# Altium footprint library QSH-060-01-H-D-A-K-TR.PcbLib: 1 footprints
Each footprint in its own frame and in the unit in brackets; x right, y up, seen from the top. Pads: shape width x height; smd on the part's side, far side on the other; paste and mask are expansions set on the pad; w line width, h text height; cw(c..) or ccw(c..) is an arc to the next point about the centre after c.
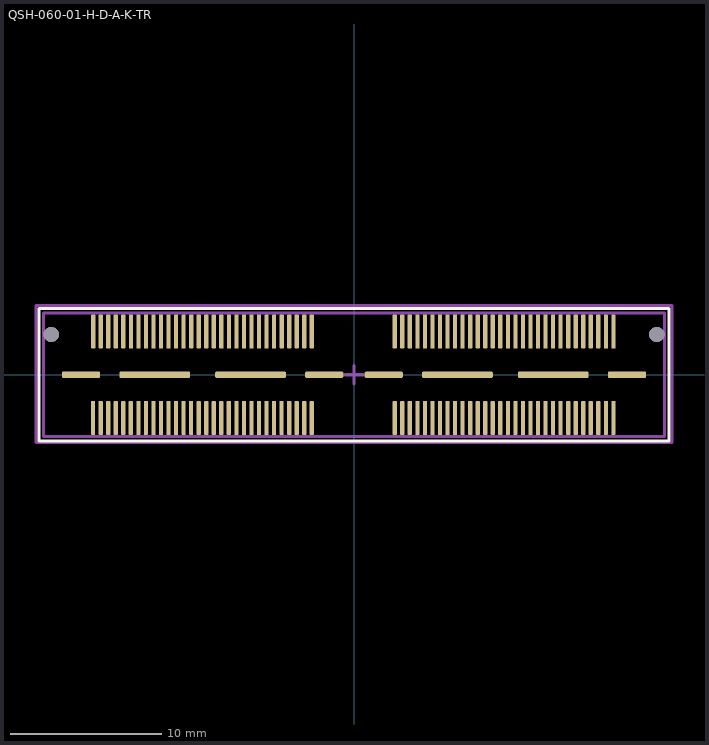
[diagram p0: the footprint, top view; thin cyan lines are the x and y axes]

## QSH-060-01-H-D-A-K-TR [mm]
pads (128):
  rrect50% 0.279x2.27 smd paste-0.02 mask+0.05: 1(-17.3,-2.865) 2(-17.297,2.865) 3(-16.8,-2.865) 4(-16.797,2.865) 5(-16.3,-2.865) 6(-16.297,2.865) 7(-15.8,-2.865) 8(-15.797,2.865) 9(-15.3,-2.865) 10(-15.297,2.865) 11(-14.8,-2.865) 12(-14.797,2.865) 13(-14.3,-2.865) 14(-14.297,2.865) 15(-13.8,-2.865) 16(-13.797,2.865) 17(-13.3,-2.865) 18(-13.297,2.865) 19(-12.8,-2.865) 20(-12.797,2.865) 21(-12.3,-2.865) 22(-12.297,2.865) 23(-11.8,-2.865) 24(-11.797,2.865) 25(-11.3,-2.865) 26(-11.297,2.865) 27(-10.8,-2.865) 28(-10.797,2.865) 29(-10.3,-2.865) 30(-10.297,2.865) 31(-9.8,-2.865) 32(-9.797,2.865) 33(-9.3,-2.865) 34(-9.297,2.865) 35(-8.8,-2.865) 36(-8.797,2.865) 37(-8.3,-2.865) 38(-8.297,2.865) 39(-7.8,-2.865) 40(-7.797,2.865) 41(-7.3,-2.865) 42(-7.297,2.865) 43(-6.8,-2.865) 44(-6.797,2.865) 45(-6.3,-2.865) 46(-6.297,2.865) 47(-5.8,-2.865) 48(-5.797,2.865) 49(-5.3,-2.865) 50(-5.297,2.865) 51(-4.8,-2.865) 52(-4.797,2.865) 53(-4.3,-2.865) 54(-4.297,2.865) 55(-3.8,-2.865) 56(-3.797,2.865) 57(-3.3,-2.865) 58(-3.297,2.865) 59(-2.8,-2.865) 60(-2.797,2.865) 61(2.703,-2.865) 62(2.703,2.865) 63(3.203,-2.865) 64(3.203,2.865) 65(3.703,-2.865) 66(3.703,2.865) 67(4.203,-2.865) 68(4.203,2.865) 69(4.703,-2.865) 70(4.703,2.865) 71(5.203,-2.865) 72(5.203,2.865) 73(5.703,-2.865) 74(5.703,2.865) 75(6.203,-2.865) 76(6.203,2.865) 77(6.703,-2.865) 78(6.703,2.865) 79(7.203,-2.865) 80(7.203,2.865) 81(7.703,-2.865) 82(7.703,2.865) 83(8.203,-2.865) 84(8.203,2.865) 85(8.703,-2.865) 86(8.703,2.865) 87(9.203,-2.865) 88(9.203,2.865) 89(9.703,-2.865) 90(9.703,2.865) 91(10.203,-2.865) 92(10.203,2.865) 93(10.703,-2.865) 94(10.703,2.865) 95(11.203,-2.865) 96(11.203,2.865) 97(11.703,-2.865) 98(11.703,2.865) 99(12.203,-2.865) 100(12.203,2.865) 101(12.703,-2.865) 102(12.703,2.865) 103(13.203,-2.865) 104(13.203,2.865) 105(13.703,-2.865) 106(13.703,2.865) 107(14.203,-2.865) 108(14.203,2.865) 109(14.703,-2.865) 110(14.703,2.865) 111(15.203,-2.865) 112(15.203,2.865) 113(15.703,-2.865) 114(15.703,2.865) 115(16.203,-2.865) 116(16.203,2.865) 117(16.703,-2.865) 118(16.703,2.865) 119(17.203,-2.865) 120(17.203,2.865)
  rrect50% 2.54x0.432 smd paste-0.05 mask+0.05: 121(-18.099,0) 124(-1.97,0) 125(1.97,0) 128(18.099,0)
  rrect50% 4.699x0.432 smd paste-0.05 mask+0.05: 122(-13.209,0) 123(-6.859,0) 126(6.859,0) 127(13.209,0)
via 20.065,2.67 diameter 1.02 hole 1.02
via -20.065,2.67 diameter 1.02 hole 1.02
Top Overlay:
  lines w0.2: -20.9,-4.4 -20.9,4.4 20.9,4.4 20.9,1 20.9,-4.4 -20.9,-4.4
Top Assembly:
  lines w0.2: -20.6,-4.1 20.6,-4.1 20.6,4.1 -20.6,4.1 -20.6,-4.1
Top Courtyard:
  lines w0.2: -0.6,0 0.6,0 ; 0,-0.6 0,0.6 ; -21.1,-4.5 -20.9,-4.5 21.1,-4.5 21.1,4.6 -21.1,4.6 -21.1,-4.5
3D body "QSH-060-01-H-D-A-K-TR.stp": height 3.37, standoff -0.75, extent -20.653,-4.127 20.66,4.128